# EAGLE library part IO4-IOB-DUAL (library SPCoast)
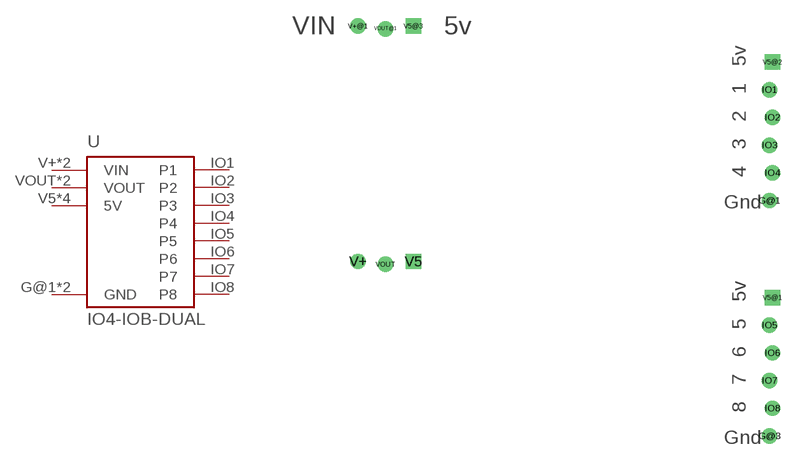
[diagram p78: symbol with the pads of 10X-IOB; footprint 10X-IOB]

Designator prefix -

## IO4-IOB-DUALRR-CIRKITS  [10X-IOB]
G@1  GND  sup
G@3  GND  sup
IO1  P1
IO2  P2
IO3  P3
IO4  P4
IO5  P5
IO6  P6
IO7  P7
IO8  P8
V5  5V  sup
V5@1  5V  sup
V5@2  5V  sup
V5@3  5V  sup
V+  VIN  sup
V+@1  VIN  sup
VOUT  VOUT  sup
VOUT@1  VOUT  sup

## Footprint 10X-IOB (pad centres in mm)
drill 0.9: G@1 44.958,23.876; G@3 44.958,2.286; IO1 44.958,34.036; IO2 45.212,31.496; IO3 44.958,28.956; IO4 45.212,26.416; IO5 44.958,12.446; IO6 45.212,9.906; IO7 44.958,7.366; IO8 45.212,4.826; V+ 7.239,18.288; V+@1 7.239,39.878; VOUT 9.779,18.034; VOUT@1 9.779,39.624
drill 0.9 square: V5 12.319,18.288; V5@1 45.212,14.986; V5@2 45.212,36.576; V5@3 12.319,39.878